# Altium footprint library 按键.PcbLib: 18 footprints (part 2 of 2)
Each footprint in its own frame and in the unit in brackets; x right, y up, seen from the top. Pads: shape width x height; smd on the part's side, far side on the other; paste and mask are expansions set on the pad; w line width, h text height; cw(c..) or ccw(c..) is an arc to the next point about the centre after c.
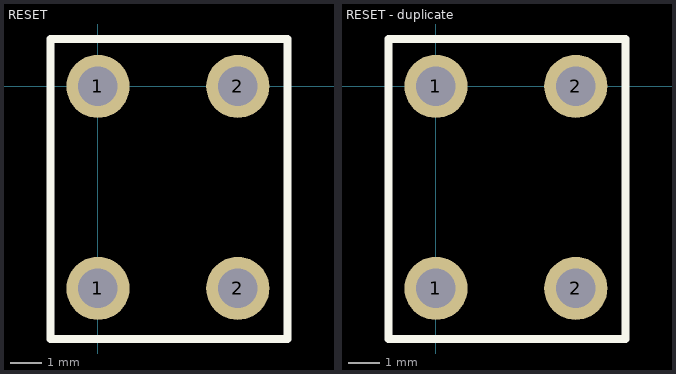
[diagram p1: the footprints below, top view; thin cyan lines are the x and y axes]

## RESET [mil]
pads (4):
  round 80 hole 50: 1(0,-255.91) 1(0,0) 2(177.16,-255.91) 2(177.16,0)
Top Overlay:
  lines w10: -60,-320 240,-320 240,60 -60,60 -60,-320

## RESET - duplicate [mil]
pads (4):
  round 80 hole 50: 1(0,-255.91) 1(0,0) 2(177.16,-255.91) 2(177.16,0)
Top Overlay:
  lines w10: -60,-320 240,-320 240,60 -60,60 -60,-320